# Altium integrated library Linear Technology Operational Amplifiers (LT1000).IntLib: 2280 symbols (part 23 of 79)
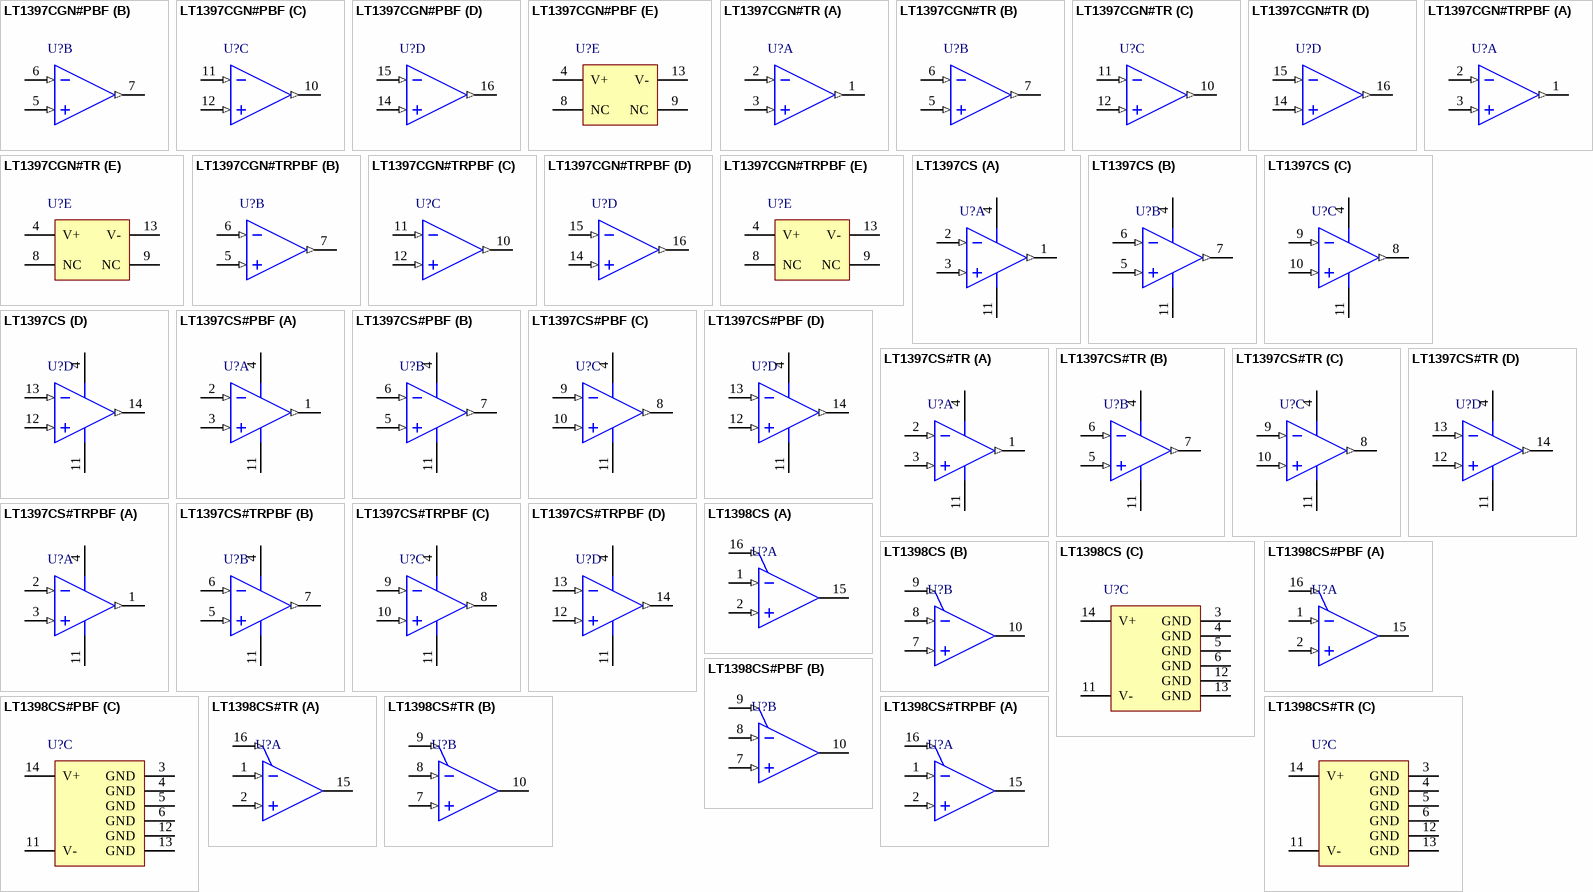
[diagram p127: symbols LT1397CGN#PBF to LT1398CS#TRPBF]

## LT1397CS
designator U?
Quad Channel, Current Feedback Amplifier, 100 MHz 0.1 dB Bandwidth, 400 MHz Typical GBW, 800 V/us Typical SR, 3 to 12.6 V, 14-Pin SOIC (S-14), Commercial; Linear Technology Part Number: LT1397; Manufacturer: Linear Technology; PartNumber: LT1397CS; Channels (#): 4; GBW (MHz) Typical: 400; Is (mA) Typical: 4.6; SR (V/us) Typical: 800; Vos (mV) Typical: 10; Vs Max (V): 12.6; Vs Min (V): 3; DatasheetVersion: Rev. D; PackageVersion: Rev G; PackageReference: LT-S-14; PackageDescription: 14-Lead Plastic Small Outline, Body 8.65 x 3.90 mm, Pitch 1.27 mm; Supplier 1: Digi-Key; Supplier Part Number 1: LT1397CS-ND; Type: CFA; Mounting Technology: Surface Mount; ComponentLink1Description: Manufacturer URL; ComponentLink1URL: http://www.linear.com/; ComponentLink2Description: Datasheet; ComponentLink2URL: http://cds.linear.com/docs/en/datasheet/139567fd.pdf; ComponentLink3Description: Package Specification; ComponentLink3URL: http://cds.linear.com/docs/en/packaging/05081610_G_S14.pdf
footprint LT-S-14_N (SOIC, 14-Leads, Body 8.65x3.90mm, Pitch 1.27mm, IPC Medium Density)
footprint LT-S-14_L (SOIC, 14-Leads, Body 8.65x3.90mm, Pitch 1.27mm, IPC High Density)
footprint LT-S-14_M (SOIC, 14-Leads, Body 8.65x3.90mm, Pitch 1.27mm, IPC Low Density)
pins on every part: 4 V+ (power), 11 V- (power)
part A pins: 1 OUT A (out), 2 -IN A (in), 3 +IN A (in)
part B pins: 5 +IN B (in), 6 -IN B (in), 7 OUT B (out)
part C pins: 8 OUT C (out), 9 -IN C (in), 10 +IN C (in)
part D pins: 12 +IN D (in), 13 -IN D (in), 14 OUT D (out)

## LT1397CS#PBF
designator U?
Quad Channel, Current Feedback Amplifier, 100 MHz 0.1 dB Bandwidth, 400 MHz Typical GBW, 800 V/us Typical SR, 3 to 12.6 V, 14-Pin SOIC (S-14), Commercial, Pb-Free; Linear Technology Part Number: LT1397; Manufacturer: Linear Technology; PartNumber: LT1397CS#PBF; Channels (#): 4; GBW (MHz) Typical: 400; Is (mA) Typical: 4.6; SR (V/us) Typical: 800; Vos (mV) Typical: 10; Vs Max (V): 12.6; Vs Min (V): 3; DatasheetVersion: Rev. D; PackageVersion: Rev G; PackageReference: LT-S-14; PackageDescription: 14-Lead Plastic Small Outline, Body 8.65 x 3.90 mm, Pitch 1.27 mm; Supplier 1: Digi-Key; Supplier Part Number 1: LT1397CS#PBF-ND; Supplier 2: Newark; Supplier Part Number 2: 57M3899; RoHS: Pb-Free; Type: CFA; Mounting Technology: Surface Mount; ComponentLink1Description: Manufacturer URL; ComponentLink1URL: http://www.linear.com/; ComponentLink2Description: Datasheet; ComponentLink2URL: http://cds.linear.com/docs/en/datasheet/139567fd.pdf; ComponentLink3Description: Package Specification; ComponentLink3URL: http://cds.linear.com/docs/en/packaging/05081610_G_S14.pdf
footprint LT-S-14_N (SOIC, 14-Leads, Body 8.65x3.90mm, Pitch 1.27mm, IPC Medium Density)
footprint LT-S-14_L (SOIC, 14-Leads, Body 8.65x3.90mm, Pitch 1.27mm, IPC High Density)
footprint LT-S-14_M (SOIC, 14-Leads, Body 8.65x3.90mm, Pitch 1.27mm, IPC Low Density)
pins on every part: 4 V+ (power), 11 V- (power)
part A pins: 1 OUT A (out), 2 -IN A (in), 3 +IN A (in)
part B pins: 5 +IN B (in), 6 -IN B (in), 7 OUT B (out)
part C pins: 8 OUT C (out), 9 -IN C (in), 10 +IN C (in)
part D pins: 12 +IN D (in), 13 -IN D (in), 14 OUT D (out)

## LT1397CS#TR
designator U?
Quad Channel, Current Feedback Amplifier, 100 MHz 0.1 dB Bandwidth, 400 MHz Typical GBW, 800 V/us Typical SR, 3 to 12.6 V, 14-Pin SOIC (S-14), Commercial, Reel; Linear Technology Part Number: LT1397; Manufacturer: Linear Technology; PartNumber: LT1397CS#TR; Channels (#): 4; GBW (MHz) Typical: 400; Is (mA) Typical: 4.6; SR (V/us) Typical: 800; Vos (mV) Typical: 10; Vs Max (V): 12.6; Vs Min (V): 3; DatasheetVersion: Rev. D; PackageVersion: Rev G; PackageReference: LT-S-14; PackageDescription: 14-Lead Plastic Small Outline, Body 8.65 x 3.90 mm, Pitch 1.27 mm; Supplier 1: Digi-Key; Supplier Part Number 1: LT1397CS#TR-ND; Packing: Reel; Type: CFA; Mounting Technology: Surface Mount; ComponentLink1Description: Manufacturer URL; ComponentLink1URL: http://www.linear.com/; ComponentLink2Description: Datasheet; ComponentLink2URL: http://cds.linear.com/docs/en/datasheet/139567fd.pdf; ComponentLink3Description: Package Specification; ComponentLink3URL: http://cds.linear.com/docs/en/packaging/05081610_G_S14.pdf
footprint LT-S-14_N (SOIC, 14-Leads, Body 8.65x3.90mm, Pitch 1.27mm, IPC Medium Density)
footprint LT-S-14_L (SOIC, 14-Leads, Body 8.65x3.90mm, Pitch 1.27mm, IPC High Density)
footprint LT-S-14_M (SOIC, 14-Leads, Body 8.65x3.90mm, Pitch 1.27mm, IPC Low Density)
pins on every part: 4 V+ (power), 11 V- (power)
part A pins: 1 OUT A (out), 2 -IN A (in), 3 +IN A (in)
part B pins: 5 +IN B (in), 6 -IN B (in), 7 OUT B (out)
part C pins: 8 OUT C (out), 9 -IN C (in), 10 +IN C (in)
part D pins: 12 +IN D (in), 13 -IN D (in), 14 OUT D (out)

## LT1397CS#TRPBF
designator U?
Quad Channel, Current Feedback Amplifier, 100 MHz 0.1 dB Bandwidth, 400 MHz Typical GBW, 800 V/us Typical SR, 3 to 12.6 V, 14-Pin SOIC (S-14), Commercial, Pb-Free, Reel; Linear Technology Part Number: LT1397; Manufacturer: Linear Technology; PartNumber: LT1397CS#TRPBF; Channels (#): 4; GBW (MHz) Typical: 400; Is (mA) Typical: 4.6; SR (V/us) Typical: 800; Vos (mV) Typical: 10; Vs Max (V): 12.6; Vs Min (V): 3; DatasheetVersion: Rev. D; PackageVersion: Rev G; PackageReference: LT-S-14; PackageDescription: 14-Lead Plastic Small Outline, Body 8.65 x 3.90 mm, Pitch 1.27 mm; Supplier 1: Digi-Key; Supplier Part Number 1: LT1397CS#TRPBF-ND; Packing: Reel; RoHS: Pb-Free; Type: CFA; Mounting Technology: Surface Mount; ComponentLink1Description: Manufacturer URL; ComponentLink1URL: http://www.linear.com/; ComponentLink2Description: Datasheet; ComponentLink2URL: http://cds.linear.com/docs/en/datasheet/139567fd.pdf; ComponentLink3Description: Package Specification; ComponentLink3URL: http://cds.linear.com/docs/en/packaging/05081610_G_S14.pdf
footprint LT-S-14_N (SOIC, 14-Leads, Body 8.65x3.90mm, Pitch 1.27mm, IPC Medium Density)
footprint LT-S-14_L (SOIC, 14-Leads, Body 8.65x3.90mm, Pitch 1.27mm, IPC High Density)
footprint LT-S-14_M (SOIC, 14-Leads, Body 8.65x3.90mm, Pitch 1.27mm, IPC Low Density)
pins on every part: 4 V+ (power), 11 V- (power)
part A pins: 1 OUT A (out), 2 -IN A (in), 3 +IN A (in)
part B pins: 5 +IN B (in), 6 -IN B (in), 7 OUT B (out)
part C pins: 8 OUT C (out), 9 -IN C (in), 10 +IN C (in)
part D pins: 12 +IN D (in), 13 -IN D (in), 14 OUT D (out)

## LT1398CS
designator U?
Dual Channel, Operational Amplifier, 0.1 dB Gain Flatness to 150 MHz, 300 MHz Typical GBW, 800 V/us Typical SR, 3 to 12.6 V, 16-Pin SOIC (S-16), Commercial; Linear Technology Part Number: LT1398; Manufacturer: Linear Technology; PartNumber: LT1398CS; Channels (#): 2; GBW (MHz) Typical: 300; Is (mA) Typical: 4.6; SR (V/us) Typical: 800; Vos (mV) Typical: 10; Vs Max (V): 12.6; Vs Min (V): 3; DatasheetVersion: Rev. A; PackageVersion: Rev G; PackageReference: LT-S-16; PackageDescription: 16-Lead Plastic Small Outline, Body 9.9 x 3.9 mm, Pitch 1.27 mm; Supplier 1: Digi-Key; Supplier Part Number 1: LT1398CS-ND; Type: CFA; Mounting Technology: Surface Mount; ComponentLink1Description: Manufacturer URL; ComponentLink1URL: http://www.linear.com/; ComponentLink2Description: Datasheet; ComponentLink2URL: http://cds.linear.com/docs/en/datasheet/13989fa.pdf; ComponentLink3Description: Package Specification; ComponentLink3URL: http://cds.linear.com/docs/en/packaging/S16%2005-08-1610%20Rev%20G.pdf
footprint LT-S-16_N (SOP, 16-Leads, Body 9.9x3.9mm, Pitch 1.27mm, IPC Medium Density)
footprint LT-S-16_L (SOP, 16-Leads, Body 9.9x3.9mm, Pitch 1.27mm, IPC High Density)
footprint LT-S-16_M (SOP, 16-Leads, Body 9.9x3.9mm, Pitch 1.27mm, IPC Low Density)
part A pins: 1 -IN A (in) "Inverting Input of A Channel Amplifier.", 2 +IN A (in) "Noninverting Input of A Channel Amplifier.", 15 OUT A (hiz) "A Channel Output.", 16 ~{EN} A (in) "A Channel Enable Pin. Logic low to enable."
part B pins: 7 +IN B (in) "Noninverting Input of B Channel Amplifier.", 8 -IN B (in) "Inverting Input of B Channel Amplifier.", 9 ~{EN} B (in) "B Channel Enable Pin. Logic low to enable.", 10 OUT B (hiz) "B Channel Output."
part C pins: 3 GND (power) "Ground. Not connected internally.", 4 GND (power) "Ground. Not connected internally.", 5 GND (power) "Ground. Not connected internally.", 6 GND (power) "Ground. Not connected internally.", 11 V- (power) "Negative Supply Voltage, Usually - 5V.", 12 GND (power) "Ground. Not connected internally.", 13 GND (power) "Ground. Not connected internally.", 14 V+ (power) "Positive Supply Voltage, Usually 5V."

## LT1398CS#PBF
designator U?
Dual Channel, Operational Amplifier, 0.1 dB Gain Flatness to 150 MHz, 300 MHz Typical GBW, 800 V/us Typical SR, 3 to 12.6 V, 16-Pin SOIC (S-16), Commercial, Pb-Free; Linear Technology Part Number: LT1398; Manufacturer: Linear Technology; PartNumber: LT1398CS#PBF; Channels (#): 2; GBW (MHz) Typical: 300; Is (mA) Typical: 4.6; SR (V/us) Typical: 800; Vos (mV) Typical: 10; Vs Max (V): 12.6; Vs Min (V): 3; DatasheetVersion: Rev. A; PackageVersion: Rev G; PackageReference: LT-S-16; PackageDescription: 16-Lead Plastic Small Outline, Body 9.9 x 3.9 mm, Pitch 1.27 mm; Supplier 1: Digi-Key; Supplier Part Number 1: LT1398CS#PBF-ND; Supplier 2: Newark; Supplier Part Number 2: 57M3905; RoHS: Pb-Free; Type: CFA; Mounting Technology: Surface Mount; ComponentLink1Description: Manufacturer URL; ComponentLink1URL: http://www.linear.com/; ComponentLink2Description: Datasheet; ComponentLink2URL: http://cds.linear.com/docs/en/datasheet/13989fa.pdf; ComponentLink3Description: Package Specification; ComponentLink3URL: http://cds.linear.com/docs/en/packaging/S16%2005-08-1610%20Rev%20G.pdf
footprint LT-S-16_N (SOP, 16-Leads, Body 9.9x3.9mm, Pitch 1.27mm, IPC Medium Density)
footprint LT-S-16_L (SOP, 16-Leads, Body 9.9x3.9mm, Pitch 1.27mm, IPC High Density)
footprint LT-S-16_M (SOP, 16-Leads, Body 9.9x3.9mm, Pitch 1.27mm, IPC Low Density)
part A pins: 1 -IN A (in) "Inverting Input of A Channel Amplifier.", 2 +IN A (in) "Noninverting Input of A Channel Amplifier.", 15 OUT A (hiz) "A Channel Output.", 16 ~{EN} A (in) "A Channel Enable Pin. Logic low to enable."
part B pins: 7 +IN B (in) "Noninverting Input of B Channel Amplifier.", 8 -IN B (in) "Inverting Input of B Channel Amplifier.", 9 ~{EN} B (in) "B Channel Enable Pin. Logic low to enable.", 10 OUT B (hiz) "B Channel Output."
part C pins: 3 GND (power) "Ground. Not connected internally.", 4 GND (power) "Ground. Not connected internally.", 5 GND (power) "Ground. Not connected internally.", 6 GND (power) "Ground. Not connected internally.", 11 V- (power) "Negative Supply Voltage, Usually - 5V.", 12 GND (power) "Ground. Not connected internally.", 13 GND (power) "Ground. Not connected internally.", 14 V+ (power) "Positive Supply Voltage, Usually 5V."

## LT1398CS#TR
designator U?
Dual Channel, Operational Amplifier, 0.1 dB Gain Flatness to 150 MHz, 300 MHz Typical GBW, 800 V/us Typical SR, 3 to 12.6 V, 16-Pin SOIC (S-16), Commercial, Reel; Linear Technology Part Number: LT1398; Manufacturer: Linear Technology; PartNumber: LT1398CS#TR; Channels (#): 2; GBW (MHz) Typical: 300; Is (mA) Typical: 4.6; SR (V/us) Typical: 800; Vos (mV) Typical: 10; Vs Max (V): 12.6; Vs Min (V): 3; DatasheetVersion: Rev. A; PackageVersion: Rev G; PackageReference: LT-S-16; PackageDescription: 16-Lead Plastic Small Outline, Body 9.9 x 3.9 mm, Pitch 1.27 mm; Supplier 1: Digi-Key; Supplier Part Number 1: LT1398CS#TR-ND; Packing: Reel; Type: CFA; Mounting Technology: Surface Mount; ComponentLink1Description: Manufacturer URL; ComponentLink1URL: http://www.linear.com/; ComponentLink2Description: Datasheet; ComponentLink2URL: http://cds.linear.com/docs/en/datasheet/13989fa.pdf; ComponentLink3Description: Package Specification; ComponentLink3URL: http://cds.linear.com/docs/en/packaging/S16%2005-08-1610%20Rev%20G.pdf
footprint LT-S-16_N (SOP, 16-Leads, Body 9.9x3.9mm, Pitch 1.27mm, IPC Medium Density)
footprint LT-S-16_L (SOP, 16-Leads, Body 9.9x3.9mm, Pitch 1.27mm, IPC High Density)
footprint LT-S-16_M (SOP, 16-Leads, Body 9.9x3.9mm, Pitch 1.27mm, IPC Low Density)
part A pins: 1 -IN A (in) "Inverting Input of A Channel Amplifier.", 2 +IN A (in) "Noninverting Input of A Channel Amplifier.", 15 OUT A (hiz) "A Channel Output.", 16 ~{EN} A (in) "A Channel Enable Pin. Logic low to enable."
part B pins: 7 +IN B (in) "Noninverting Input of B Channel Amplifier.", 8 -IN B (in) "Inverting Input of B Channel Amplifier.", 9 ~{EN} B (in) "B Channel Enable Pin. Logic low to enable.", 10 OUT B (hiz) "B Channel Output."
part C pins: 3 GND (power) "Ground. Not connected internally.", 4 GND (power) "Ground. Not connected internally.", 5 GND (power) "Ground. Not connected internally.", 6 GND (power) "Ground. Not connected internally.", 11 V- (power) "Negative Supply Voltage, Usually - 5V.", 12 GND (power) "Ground. Not connected internally.", 13 GND (power) "Ground. Not connected internally.", 14 V+ (power) "Positive Supply Voltage, Usually 5V."

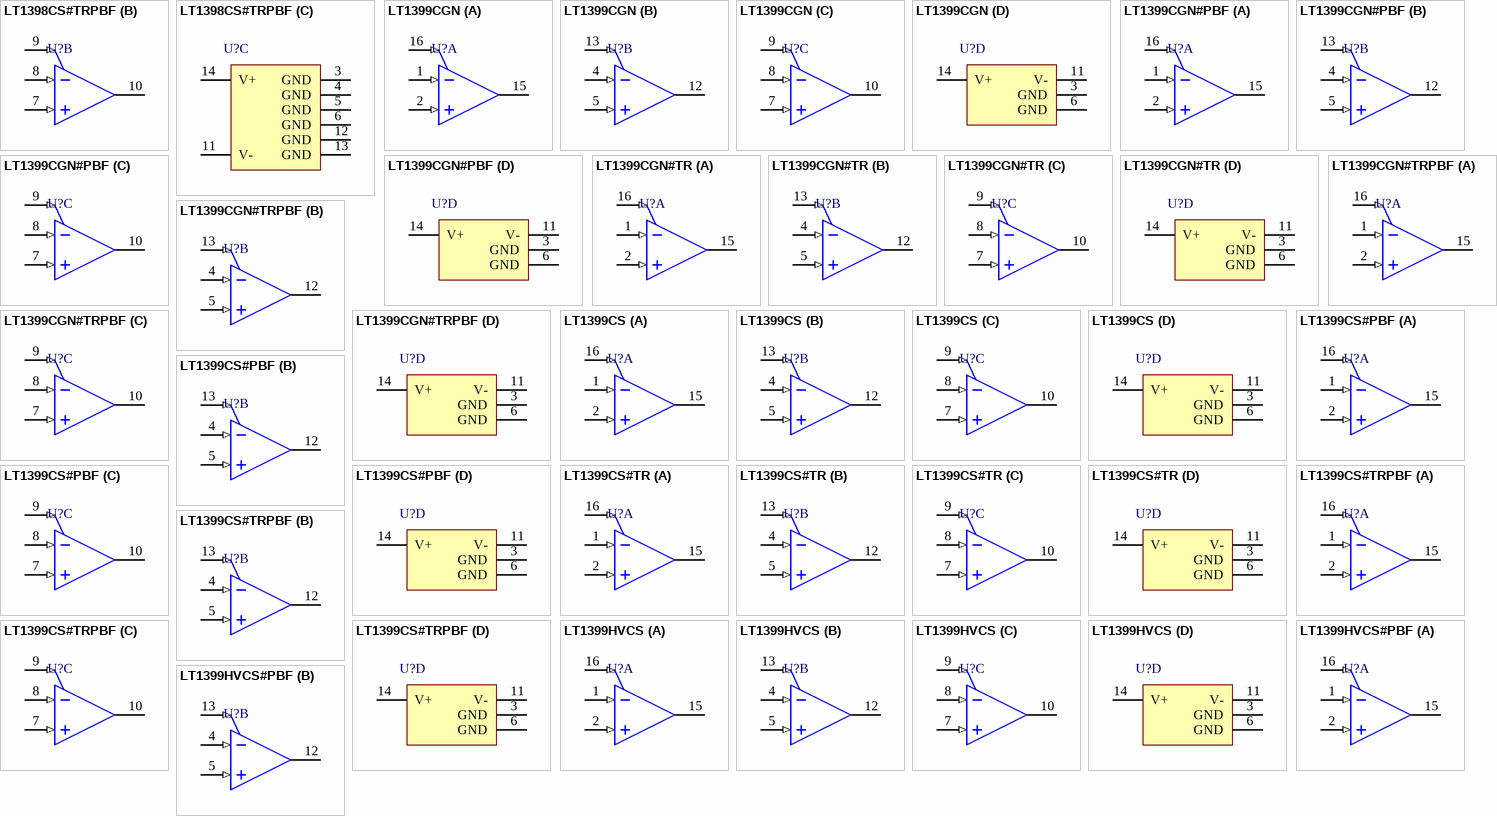
[diagram p36: symbols LT1398CS#TRPBF to LT1399HVCS#PBF]

## LT1398CS#TRPBF
designator U?
Dual Channel, Operational Amplifier, 0.1 dB Gain Flatness to 150 MHz, 300 MHz Typical GBW, 800 V/us Typical SR, 3 to 12.6 V, 16-Pin SOIC (S-16), Commercial, Pb-Free, Reel; Linear Technology Part Number: LT1398; Manufacturer: Linear Technology; PartNumber: LT1398CS#TRPBF; Channels (#): 2; GBW (MHz) Typical: 300; Is (mA) Typical: 4.6; SR (V/us) Typical: 800; Vos (mV) Typical: 10; Vs Max (V): 12.6; Vs Min (V): 3; DatasheetVersion: Rev. A; PackageVersion: Rev G; PackageReference: LT-S-16; PackageDescription: 16-Lead Plastic Small Outline, Body 9.9 x 3.9 mm, Pitch 1.27 mm; Supplier 1: Digi-Key; Supplier Part Number 1: LT1398CS#TRPBF-ND; Packing: Reel; RoHS: Pb-Free; Type: CFA; Mounting Technology: Surface Mount; ComponentLink1Description: Manufacturer URL; ComponentLink1URL: http://www.linear.com/; ComponentLink2Description: Datasheet; ComponentLink2URL: http://cds.linear.com/docs/en/datasheet/13989fa.pdf; ComponentLink3Description: Package Specification; ComponentLink3URL: http://cds.linear.com/docs/en/packaging/S16%2005-08-1610%20Rev%20G.pdf
footprint LT-S-16_N (SOP, 16-Leads, Body 9.9x3.9mm, Pitch 1.27mm, IPC Medium Density)
footprint LT-S-16_L (SOP, 16-Leads, Body 9.9x3.9mm, Pitch 1.27mm, IPC High Density)
footprint LT-S-16_M (SOP, 16-Leads, Body 9.9x3.9mm, Pitch 1.27mm, IPC Low Density)
part A pins: 1 -IN A (in) "Inverting Input of A Channel Amplifier.", 2 +IN A (in) "Noninverting Input of A Channel Amplifier.", 15 OUT A (hiz) "A Channel Output.", 16 ~{EN} A (in) "A Channel Enable Pin. Logic low to enable."
part B pins: 7 +IN B (in) "Noninverting Input of B Channel Amplifier.", 8 -IN B (in) "Inverting Input of B Channel Amplifier.", 9 ~{EN} B (in) "B Channel Enable Pin. Logic low to enable.", 10 OUT B (hiz) "B Channel Output."
part C pins: 3 GND (power) "Ground. Not connected internally.", 4 GND (power) "Ground. Not connected internally.", 5 GND (power) "Ground. Not connected internally.", 6 GND (power) "Ground. Not connected internally.", 11 V- (power) "Negative Supply Voltage, Usually - 5V.", 12 GND (power) "Ground. Not connected internally.", 13 GND (power) "Ground. Not connected internally.", 14 V+ (power) "Positive Supply Voltage, Usually 5V."

## LT1399CGN
designator U?
3 Channel, Operational Amplifier, 0.1 dB Gain Flatness to 150 MHz, 300 MHz Typical GBW, 800 V/us Typical SR, 3 to 12.6 V, 16-Pin SOP (GN-16), Commercial; Linear Technology Part Number: LT1399; Manufacturer: Linear Technology; PartNumber: LT1399CGN; Channels (#): 3; GBW (MHz) Typical: 300; Is (mA) Typical: 4.6; SR (V/us) Typical: 800; Vos (mV) Typical: 1.5; Vs Max (V): 12.6; DatasheetVersion: Rev. A; PackageVersion: Rev B; PackageReference: LT-GN-16; PackageDescription: 16-Lead Plastic SSOP, Body 4.9 x 3.9 mm, Pitch 0.635 mm; Supplier 1: Digi-Key; Supplier Part Number 1: LT1399CGN-ND; Type: CFA; Vs Min (V): 3; Mounting Technology: Surface Mount; ComponentLink1Description: Manufacturer URL; ComponentLink1URL: http://www.linear.com/; ComponentLink2Description: Datasheet; ComponentLink2URL: http://cds.linear.com/docs/en/datasheet/13989fa.pdf; ComponentLink3Description: Package Specification; ComponentLink3URL: http://cds.linear.com/docs/en/packaging/05081641_B_GN16.pdf
footprint LT-GN-16_N (SOP, 16-Leads, Body 4.9x3.9mm, Pitch 0.635mm, IPC Medium Density)
footprint LT-GN-16_L (SOP, 16-Leads, Body 4.9x3.9mm, Pitch 0.635mm, IPC High Density)
footprint LT-GN-16_M (SOP, 16-Leads, Body 4.9x3.9mm, Pitch 0.635mm, IPC Low Density)
part A pins: 1 -IN R (in) "Inverting Input of R Channel Amplifier.", 2 +IN R (in) "Noninverting Input of R Channel Amplifier.", 15 OUT R (hiz) "R Channel Output.", 16 ~{EN} R (in) "R Channel Enable Pin. Logic low to enable."
part B pins: 4 -IN G (in) "Inverting Input of G Channel Amplifier.", 5 +IN G (in) "Noninverting Input of G Channel Amplifier.", 12 OUT G (hiz) "G Channel Output.", 13 ~{EN} G (in) "G Channel Enable Pin. Logic low to enable."
part C pins: 7 +IN B (in) "Noninverting Input of B Channel Amplifier.", 8 -IN B (in) "Inverting Input of B Channel Amplifier.", 9 ~{EN} B (in) "B Channel Enable Pin. Logic low to enable.", 10 OUT B (hiz) "B Channel Output."
part D pins: 3 GND (power) "Ground. Not connected internally.", 6 GND (power) "Ground. Not connected internally.", 11 V- (power) "Negative Supply Voltage, Usually -5V.", 14 V+ (power) "Positive Supply Voltage, Usually 5V."

## LT1399CGN#PBF
designator U?
3 Channel, Operational Amplifier, 0.1 dB Gain Flatness to 150 MHz, 300 MHz Typical GBW, 800 V/us Typical SR, 3 to 12.6 V, 16-Pin SOP (GN-16), Commercial, Pb-Free; Linear Technology Part Number: LT1399; Manufacturer: Linear Technology; PartNumber: LT1399CGN#PBF; Channels (#): 3; GBW (MHz) Typical: 300; Is (mA) Typical: 4.6; SR (V/us) Typical: 800; Vos (mV) Typical: 1.5; Vs Max (V): 12.6; DatasheetVersion: Rev. A; PackageVersion: Rev B; PackageReference: LT-GN-16; PackageDescription: 16-Lead Plastic SSOP, Body 4.9 x 3.9 mm, Pitch 0.635 mm; Supplier 1: Digi-Key; Supplier Part Number 1: LT1399CGN#PBF-ND; RoHS: Pb-Free; Type: CFA; Vs Min (V): 3; Mounting Technology: Surface Mount; ComponentLink1Description: Manufacturer URL; ComponentLink1URL: http://www.linear.com/; ComponentLink2Description: Datasheet; ComponentLink2URL: http://cds.linear.com/docs/en/datasheet/13989fa.pdf; ComponentLink3Description: Package Specification; ComponentLink3URL: http://cds.linear.com/docs/en/packaging/05081641_B_GN16.pdf
footprint LT-GN-16_N (SOP, 16-Leads, Body 4.9x3.9mm, Pitch 0.635mm, IPC Medium Density)
footprint LT-GN-16_L (SOP, 16-Leads, Body 4.9x3.9mm, Pitch 0.635mm, IPC High Density)
footprint LT-GN-16_M (SOP, 16-Leads, Body 4.9x3.9mm, Pitch 0.635mm, IPC Low Density)
part A pins: 1 -IN R (in) "Inverting Input of R Channel Amplifier.", 2 +IN R (in) "Noninverting Input of R Channel Amplifier.", 15 OUT R (hiz) "R Channel Output.", 16 ~{EN} R (in) "R Channel Enable Pin. Logic low to enable."
part B pins: 4 -IN G (in) "Inverting Input of G Channel Amplifier.", 5 +IN G (in) "Noninverting Input of G Channel Amplifier.", 12 OUT G (hiz) "G Channel Output.", 13 ~{EN} G (in) "G Channel Enable Pin. Logic low to enable."
part C pins: 7 +IN B (in) "Noninverting Input of B Channel Amplifier.", 8 -IN B (in) "Inverting Input of B Channel Amplifier.", 9 ~{EN} B (in) "B Channel Enable Pin. Logic low to enable.", 10 OUT B (hiz) "B Channel Output."
part D pins: 3 GND (power) "Ground. Not connected internally.", 6 GND (power) "Ground. Not connected internally.", 11 V- (power) "Negative Supply Voltage, Usually -5V.", 14 V+ (power) "Positive Supply Voltage, Usually 5V."

## LT1399CGN#TR
designator U?
3 Channel, Operational Amplifier, 0.1 dB Gain Flatness to 150 MHz, 300 MHz Typical GBW, 800 V/us Typical SR, 3 to 12.6 V, 16-Pin SOP (GN-16), Commercial, Reel; Linear Technology Part Number: LT1399; Manufacturer: Linear Technology; PartNumber: LT1399CGN#TR; Channels (#): 3; GBW (MHz) Typical: 300; Is (mA) Typical: 4.6; SR (V/us) Typical: 800; Vos (mV) Typical: 1.5; Vs Max (V): 12.6; DatasheetVersion: Rev. A; PackageVersion: Rev B; PackageReference: LT-GN-16; PackageDescription: 16-Lead Plastic SSOP, Body 4.9 x 3.9 mm, Pitch 0.635 mm; Supplier 1: Digi-Key; Supplier Part Number 1: LT1399CGN#TR-ND; Packing: Reel; Type: CFA; Vs Min (V): 3; Mounting Technology: Surface Mount; ComponentLink1Description: Manufacturer URL; ComponentLink1URL: http://www.linear.com/; ComponentLink2Description: Datasheet; ComponentLink2URL: http://cds.linear.com/docs/en/datasheet/13989fa.pdf; ComponentLink3Description: Package Specification; ComponentLink3URL: http://cds.linear.com/docs/en/packaging/05081641_B_GN16.pdf
footprint LT-GN-16_N (SOP, 16-Leads, Body 4.9x3.9mm, Pitch 0.635mm, IPC Medium Density)
footprint LT-GN-16_L (SOP, 16-Leads, Body 4.9x3.9mm, Pitch 0.635mm, IPC High Density)
footprint LT-GN-16_M (SOP, 16-Leads, Body 4.9x3.9mm, Pitch 0.635mm, IPC Low Density)
part A pins: 1 -IN R (in) "Inverting Input of R Channel Amplifier.", 2 +IN R (in) "Noninverting Input of R Channel Amplifier.", 15 OUT R (hiz) "R Channel Output.", 16 ~{EN} R (in) "R Channel Enable Pin. Logic low to enable."
part B pins: 4 -IN G (in) "Inverting Input of G Channel Amplifier.", 5 +IN G (in) "Noninverting Input of G Channel Amplifier.", 12 OUT G (hiz) "G Channel Output.", 13 ~{EN} G (in) "G Channel Enable Pin. Logic low to enable."
part C pins: 7 +IN B (in) "Noninverting Input of B Channel Amplifier.", 8 -IN B (in) "Inverting Input of B Channel Amplifier.", 9 ~{EN} B (in) "B Channel Enable Pin. Logic low to enable.", 10 OUT B (hiz) "B Channel Output."
part D pins: 3 GND (power) "Ground. Not connected internally.", 6 GND (power) "Ground. Not connected internally.", 11 V- (power) "Negative Supply Voltage, Usually -5V.", 14 V+ (power) "Positive Supply Voltage, Usually 5V."

## LT1399CGN#TRPBF
designator U?
3 Channel, Operational Amplifier, 0.1 dB Gain Flatness to 150 MHz, 300 MHz Typical GBW, 800 V/us Typical SR, 3 to 12.6 V, 16-Pin SOP (GN-16), Commercial, Pb-Free, Reel; Linear Technology Part Number: LT1399; Manufacturer: Linear Technology; PartNumber: LT1399CGN#TRPBF; Channels (#): 3; GBW (MHz) Typical: 300; Is (mA) Typical: 4.6; SR (V/us) Typical: 800; Vos (mV) Typical: 1.5; Vs Max (V): 12.6; DatasheetVersion: Rev. A; PackageVersion: Rev B; PackageReference: LT-GN-16; PackageDescription: 16-Lead Plastic SSOP, Body 4.9 x 3.9 mm, Pitch 0.635 mm; Supplier 1: Digi-Key; Supplier Part Number 1: LT1399CGN#TRPBF-ND; Packing: Reel; RoHS: Pb-Free; Type: CFA; Vs Min (V): 3; Mounting Technology: Surface Mount; ComponentLink1Description: Manufacturer URL; ComponentLink1URL: http://www.linear.com/; ComponentLink2Description: Datasheet; ComponentLink2URL: http://cds.linear.com/docs/en/datasheet/13989fa.pdf; ComponentLink3Description: Package Specification; ComponentLink3URL: http://cds.linear.com/docs/en/packaging/05081641_B_GN16.pdf
footprint LT-GN-16_N (SOP, 16-Leads, Body 4.9x3.9mm, Pitch 0.635mm, IPC Medium Density)
footprint LT-GN-16_L (SOP, 16-Leads, Body 4.9x3.9mm, Pitch 0.635mm, IPC High Density)
footprint LT-GN-16_M (SOP, 16-Leads, Body 4.9x3.9mm, Pitch 0.635mm, IPC Low Density)
part A pins: 1 -IN R (in) "Inverting Input of R Channel Amplifier.", 2 +IN R (in) "Noninverting Input of R Channel Amplifier.", 15 OUT R (hiz) "R Channel Output.", 16 ~{EN} R (in) "R Channel Enable Pin. Logic low to enable."
part B pins: 4 -IN G (in) "Inverting Input of G Channel Amplifier.", 5 +IN G (in) "Noninverting Input of G Channel Amplifier.", 12 OUT G (hiz) "G Channel Output.", 13 ~{EN} G (in) "G Channel Enable Pin. Logic low to enable."
part C pins: 7 +IN B (in) "Noninverting Input of B Channel Amplifier.", 8 -IN B (in) "Inverting Input of B Channel Amplifier.", 9 ~{EN} B (in) "B Channel Enable Pin. Logic low to enable.", 10 OUT B (hiz) "B Channel Output."
part D pins: 3 GND (power) "Ground. Not connected internally.", 6 GND (power) "Ground. Not connected internally.", 11 V- (power) "Negative Supply Voltage, Usually -5V.", 14 V+ (power) "Positive Supply Voltage, Usually 5V."

## LT1399CS
designator U?
3 Channel, Operational Amplifier, 0.1 dB Gain Flatness to 150 MHz, 300 MHz Typical GBW, 800 V/us Typical SR, 3 to 12.6 V, 16-Pin SOIC (S-16), Commercial; Linear Technology Part Number: LT1399; Manufacturer: Linear Technology; PartNumber: LT1399CS; Channels (#): 3; GBW (MHz) Typical: 300; Is (mA) Typical: 4.6; SR (V/us) Typical: 800; Vos (mV) Typical: 1.5; Vs Max (V): 12.6; DatasheetVersion: Rev. A; PackageVersion: Rev G; PackageReference: LT-S-16; PackageDescription: 16-Lead Plastic Small Outline, Body 9.9 x 3.9 mm, Pitch 1.27 mm; Supplier 1: Digi-Key; Supplier Part Number 1: LT1399CS-ND; Type: CFA; Vs Min (V): 3; Mounting Technology: Surface Mount; ComponentLink1Description: Manufacturer URL; ComponentLink1URL: http://www.linear.com/; ComponentLink2Description: Datasheet; ComponentLink2URL: http://cds.linear.com/docs/en/datasheet/13989fa.pdf; ComponentLink3Description: Package Specification; ComponentLink3URL: http://cds.linear.com/docs/en/packaging/S16%2005-08-1610%20Rev%20G.pdf
footprint LT-S-16_N (SOP, 16-Leads, Body 9.9x3.9mm, Pitch 1.27mm, IPC Medium Density)
footprint LT-S-16_L (SOP, 16-Leads, Body 9.9x3.9mm, Pitch 1.27mm, IPC High Density)
footprint LT-S-16_M (SOP, 16-Leads, Body 9.9x3.9mm, Pitch 1.27mm, IPC Low Density)
part A pins: 1 -IN R (in) "Inverting Input of R Channel Amplifier.", 2 +IN R (in) "Noninverting Input of R Channel Amplifier.", 15 OUT R (hiz) "R Channel Output.", 16 ~{EN} R (in) "R Channel Enable Pin. Logic low to enable."
part B pins: 4 -IN G (in) "Inverting Input of G Channel Amplifier.", 5 +IN G (in) "Noninverting Input of G Channel Amplifier.", 12 OUT G (hiz) "G Channel Output.", 13 ~{EN} G (in) "G Channel Enable Pin. Logic low to enable."
part C pins: 7 +IN B (in) "Noninverting Input of B Channel Amplifier.", 8 -IN B (in) "Inverting Input of B Channel Amplifier.", 9 ~{EN} B (in) "B Channel Enable Pin. Logic low to enable.", 10 OUT B (hiz) "B Channel Output."
part D pins: 3 GND (power) "Ground. Not connected internally.", 6 GND (power) "Ground. Not connected internally.", 11 V- (power) "Negative Supply Voltage, Usually -5V.", 14 V+ (power) "Positive Supply Voltage, Usually 5V."

## LT1399CS#PBF
designator U?
3 Channel, Operational Amplifier, 0.1 dB Gain Flatness to 150 MHz, 300 MHz Typical GBW, 800 V/us Typical SR, 3 to 12.6 V, 16-Pin SOIC (S-16), Commercial, Pb-Free; Linear Technology Part Number: LT1399; Manufacturer: Linear Technology; PartNumber: LT1399CS#PBF; Channels (#): 3; GBW (MHz) Typical: 300; Is (mA) Typical: 4.6; SR (V/us) Typical: 800; Vos (mV) Typical: 1.5; Vs Max (V): 12.6; DatasheetVersion: Rev. A; PackageVersion: Rev G; PackageReference: LT-S-16; PackageDescription: 16-Lead Plastic Small Outline, Body 9.9 x 3.9 mm, Pitch 1.27 mm; Supplier 1: Digi-Key; Supplier Part Number 1: LT1399CS#PBF-ND; Supplier 2: Farnell; Supplier Part Number 2: 1330651; Supplier 3: Newark; Supplier Part Number 3: 57M3913; RoHS: Pb-Free; Type: CFA; Vs Min (V): 3; Mounting Technology: Surface Mount; ComponentLink1Description: Manufacturer URL; ComponentLink1URL: http://www.linear.com/; ComponentLink2Description: Datasheet; ComponentLink2URL: http://cds.linear.com/docs/en/datasheet/13989fa.pdf; ComponentLink3Description: Package Specification; ComponentLink3URL: http://cds.linear.com/docs/en/packaging/S16%2005-08-1610%20Rev%20G.pdf
footprint LT-S-16_N (SOP, 16-Leads, Body 9.9x3.9mm, Pitch 1.27mm, IPC Medium Density)
footprint LT-S-16_L (SOP, 16-Leads, Body 9.9x3.9mm, Pitch 1.27mm, IPC High Density)
footprint LT-S-16_M (SOP, 16-Leads, Body 9.9x3.9mm, Pitch 1.27mm, IPC Low Density)
part A pins: 1 -IN R (in) "Inverting Input of R Channel Amplifier.", 2 +IN R (in) "Noninverting Input of R Channel Amplifier.", 15 OUT R (hiz) "R Channel Output.", 16 ~{EN} R (in) "R Channel Enable Pin. Logic low to enable."
part B pins: 4 -IN G (in) "Inverting Input of G Channel Amplifier.", 5 +IN G (in) "Noninverting Input of G Channel Amplifier.", 12 OUT G (hiz) "G Channel Output.", 13 ~{EN} G (in) "G Channel Enable Pin. Logic low to enable."
part C pins: 7 +IN B (in) "Noninverting Input of B Channel Amplifier.", 8 -IN B (in) "Inverting Input of B Channel Amplifier.", 9 ~{EN} B (in) "B Channel Enable Pin. Logic low to enable.", 10 OUT B (hiz) "B Channel Output."
part D pins: 3 GND (power) "Ground. Not connected internally.", 6 GND (power) "Ground. Not connected internally.", 11 V- (power) "Negative Supply Voltage, Usually -5V.", 14 V+ (power) "Positive Supply Voltage, Usually 5V."

## LT1399CS#TR
designator U?
3 Channel, Operational Amplifier, 0.1 dB Gain Flatness to 150 MHz, 300 MHz Typical GBW, 800 V/us Typical SR, 3 to 12.6 V, 16-Pin SOIC (S-16), Commercial, Reel; Linear Technology Part Number: LT1399; Manufacturer: Linear Technology; PartNumber: LT1399CS#TR; Channels (#): 3; GBW (MHz) Typical: 300; Is (mA) Typical: 4.6; SR (V/us) Typical: 800; Vos (mV) Typical: 1.5; Vs Max (V): 12.6; DatasheetVersion: Rev. A; PackageVersion: Rev G; PackageReference: LT-S-16; PackageDescription: 16-Lead Plastic Small Outline, Body 9.9 x 3.9 mm, Pitch 1.27 mm; Supplier 1: Digi-Key; Supplier Part Number 1: LT1399CS#TR-ND; Packing: Reel; Type: CFA; Vs Min (V): 3; Mounting Technology: Surface Mount; ComponentLink1Description: Manufacturer URL; ComponentLink1URL: http://www.linear.com/; ComponentLink2Description: Datasheet; ComponentLink2URL: http://cds.linear.com/docs/en/datasheet/13989fa.pdf; ComponentLink3Description: Package Specification; ComponentLink3URL: http://cds.linear.com/docs/en/packaging/S16%2005-08-1610%20Rev%20G.pdf
footprint LT-S-16_N (SOP, 16-Leads, Body 9.9x3.9mm, Pitch 1.27mm, IPC Medium Density)
footprint LT-S-16_L (SOP, 16-Leads, Body 9.9x3.9mm, Pitch 1.27mm, IPC High Density)
footprint LT-S-16_M (SOP, 16-Leads, Body 9.9x3.9mm, Pitch 1.27mm, IPC Low Density)
part A pins: 1 -IN R (in) "Inverting Input of R Channel Amplifier.", 2 +IN R (in) "Noninverting Input of R Channel Amplifier.", 15 OUT R (hiz) "R Channel Output.", 16 ~{EN} R (in) "R Channel Enable Pin. Logic low to enable."
part B pins: 4 -IN G (in) "Inverting Input of G Channel Amplifier.", 5 +IN G (in) "Noninverting Input of G Channel Amplifier.", 12 OUT G (hiz) "G Channel Output.", 13 ~{EN} G (in) "G Channel Enable Pin. Logic low to enable."
part C pins: 7 +IN B (in) "Noninverting Input of B Channel Amplifier.", 8 -IN B (in) "Inverting Input of B Channel Amplifier.", 9 ~{EN} B (in) "B Channel Enable Pin. Logic low to enable.", 10 OUT B (hiz) "B Channel Output."
part D pins: 3 GND (power) "Ground. Not connected internally.", 6 GND (power) "Ground. Not connected internally.", 11 V- (power) "Negative Supply Voltage, Usually -5V.", 14 V+ (power) "Positive Supply Voltage, Usually 5V."

## LT1399CS#TRPBF
designator U?
3 Channel, Operational Amplifier, 0.1 dB Gain Flatness to 150 MHz, 300 MHz Typical GBW, 800 V/us Typical SR, 3 to 12.6 V, 16-Pin SOIC (S-16), Commercial, Pb-Free, Reel; Linear Technology Part Number: LT1399; Manufacturer: Linear Technology; PartNumber: LT1399CS#TRPBF; Channels (#): 3; GBW (MHz) Typical: 300; Is (mA) Typical: 4.6; SR (V/us) Typical: 800; Vos (mV) Typical: 1.5; Vs Max (V): 12.6; DatasheetVersion: Rev. A; PackageVersion: Rev G; PackageReference: LT-S-16; PackageDescription: 16-Lead Plastic Small Outline, Body 9.9 x 3.9 mm, Pitch 1.27 mm; Supplier 1: Digi-Key; Supplier Part Number 1: LT1399CS#TRPBF-ND; Packing: Reel; RoHS: Pb-Free; Type: CFA; Vs Min (V): 3; Mounting Technology: Surface Mount; ComponentLink1Description: Manufacturer URL; ComponentLink1URL: http://www.linear.com/; ComponentLink2Description: Datasheet; ComponentLink2URL: http://cds.linear.com/docs/en/datasheet/13989fa.pdf; ComponentLink3Description: Package Specification; ComponentLink3URL: http://cds.linear.com/docs/en/packaging/S16%2005-08-1610%20Rev%20G.pdf
footprint LT-S-16_N (SOP, 16-Leads, Body 9.9x3.9mm, Pitch 1.27mm, IPC Medium Density)
footprint LT-S-16_L (SOP, 16-Leads, Body 9.9x3.9mm, Pitch 1.27mm, IPC High Density)
footprint LT-S-16_M (SOP, 16-Leads, Body 9.9x3.9mm, Pitch 1.27mm, IPC Low Density)
part A pins: 1 -IN R (in) "Inverting Input of R Channel Amplifier.", 2 +IN R (in) "Noninverting Input of R Channel Amplifier.", 15 OUT R (hiz) "R Channel Output.", 16 ~{EN} R (in) "R Channel Enable Pin. Logic low to enable."
part B pins: 4 -IN G (in) "Inverting Input of G Channel Amplifier.", 5 +IN G (in) "Noninverting Input of G Channel Amplifier.", 12 OUT G (hiz) "G Channel Output.", 13 ~{EN} G (in) "G Channel Enable Pin. Logic low to enable."
part C pins: 7 +IN B (in) "Noninverting Input of B Channel Amplifier.", 8 -IN B (in) "Inverting Input of B Channel Amplifier.", 9 ~{EN} B (in) "B Channel Enable Pin. Logic low to enable.", 10 OUT B (hiz) "B Channel Output."
part D pins: 3 GND (power) "Ground. Not connected internally.", 6 GND (power) "Ground. Not connected internally.", 11 V- (power) "Negative Supply Voltage, Usually -5V.", 14 V+ (power) "Positive Supply Voltage, Usually 5V."

## LT1399HVCS
designator U?
3 Channel, Operational Amplifier, 0.1 dB Gain Flatness to 150 MHz, 300 MHz Typical GBW, 800 V/us Typical SR, 3 to 15.5 V, 16-Pin SOIC (S-16), Commercial; Linear Technology Part Number: LT1399HV; Manufacturer: Linear Technology; PartNumber: LT1399HVCS; Channels (#): 3; GBW (MHz) Typical: 300; Is (mA) Typical: 4.6; SR (V/us) Typical: 800; Vos (mV) Typical: 1.5; Vs Max (V): 15.5; DatasheetVersion: Rev. A; PackageVersion: Rev G; PackageReference: LT-S-16; PackageDescription: 16-Lead Plastic Small Outline, Body 9.9 x 3.9 mm, Pitch 1.27 mm; Supplier 1: Digi-Key; Supplier Part Number 1: LT1399HVCS-ND; Type: CFA; Vs Min (V): 3; Mounting Technology: Surface Mount; ComponentLink1Description: Manufacturer URL; ComponentLink1URL: http://www.linear.com/; ComponentLink2Description: Datasheet; ComponentLink2URL: http://cds.linear.com/docs/en/datasheet/13989fa.pdf; ComponentLink3Description: Package Specification; ComponentLink3URL: http://cds.linear.com/docs/en/packaging/S16%2005-08-1610%20Rev%20G.pdf
footprint LT-S-16_N (SOP, 16-Leads, Body 9.9x3.9mm, Pitch 1.27mm, IPC Medium Density)
footprint LT-S-16_L (SOP, 16-Leads, Body 9.9x3.9mm, Pitch 1.27mm, IPC High Density)
footprint LT-S-16_M (SOP, 16-Leads, Body 9.9x3.9mm, Pitch 1.27mm, IPC Low Density)
part A pins: 1 -IN R (in) "Inverting Input of R Channel Amplifier.", 2 +IN R (in) "Noninverting Input of R Channel Amplifier.", 15 OUT R (hiz) "R Channel Output.", 16 ~{EN} R (in) "R Channel Enable Pin. Logic low to enable."
part B pins: 4 -IN G (in) "Inverting Input of G Channel Amplifier.", 5 +IN G (in) "Noninverting Input of G Channel Amplifier.", 12 OUT G (hiz) "G Channel Output.", 13 ~{EN} G (in) "G Channel Enable Pin. Logic low to enable."
part C pins: 7 +IN B (in) "Noninverting Input of B Channel Amplifier.", 8 -IN B (in) "Inverting Input of B Channel Amplifier.", 9 ~{EN} B (in) "B Channel Enable Pin. Logic low to enable.", 10 OUT B (hiz) "B Channel Output."
part D pins: 3 GND (power) "Ground. Not connected internally.", 6 GND (power) "Ground. Not connected internally.", 11 V- (power) "Negative Supply Voltage, Usually -5V.", 14 V+ (power) "Positive Supply Voltage, Usually 5V."

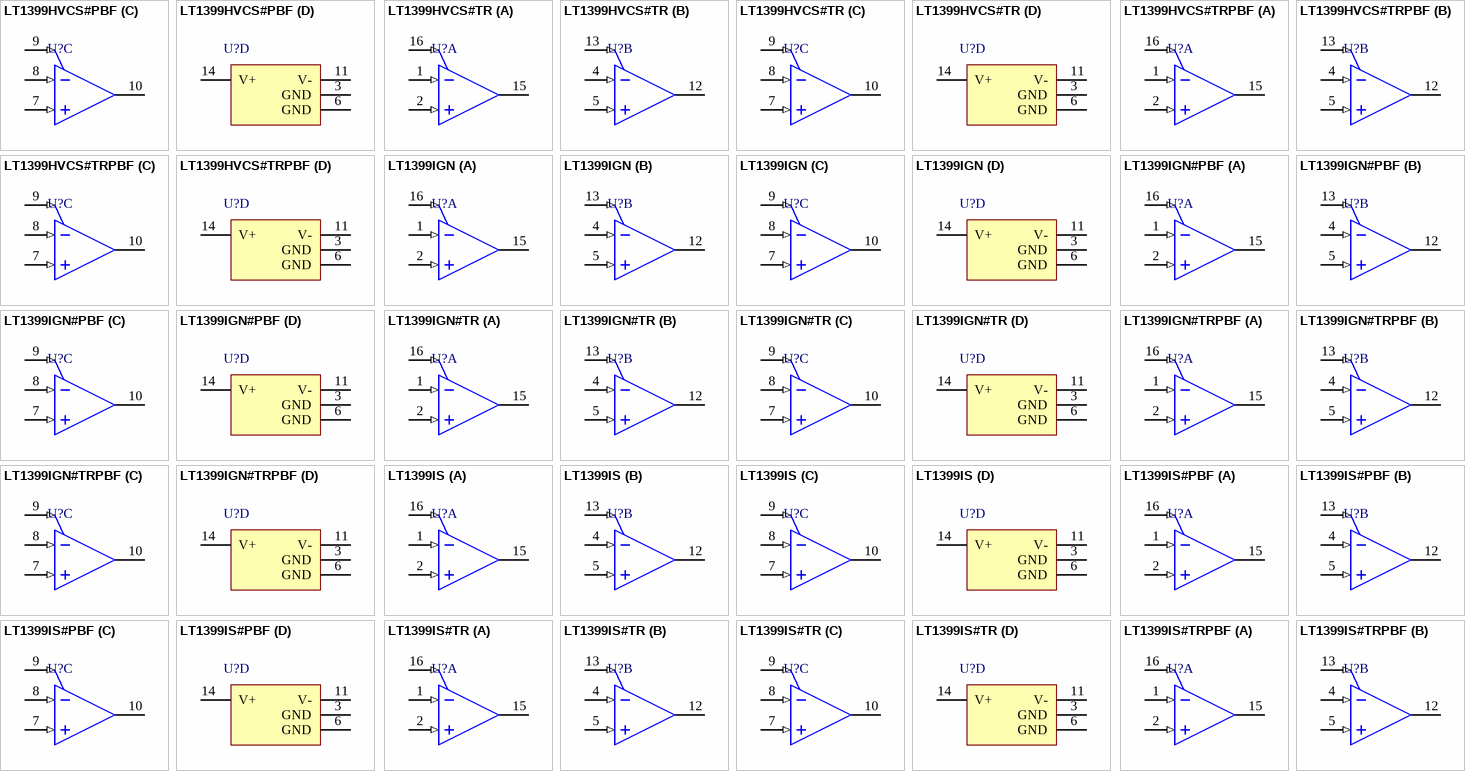
[diagram p37: symbols LT1399HVCS#PBF to LT1399IS#TRPBF]

## LT1399HVCS#PBF
designator U?
3 Channel, Operational Amplifier, 0.1 dB Gain Flatness to 150 MHz, 300 MHz Typical GBW, 800 V/us Typical SR, 3 to 15.5 V, 16-Pin SOIC (S-16), Commercial, Pb-Free; Linear Technology Part Number: LT1399HV; Manufacturer: Linear Technology; PartNumber: LT1399HVCS#PBF; Channels (#): 3; GBW (MHz) Typical: 300; Is (mA) Typical: 4.6; SR (V/us) Typical: 800; Vos (mV) Typical: 1.5; Vs Max (V): 15.5; DatasheetVersion: Rev. A; PackageVersion: Rev G; PackageReference: LT-S-16; PackageDescription: 16-Lead Plastic Small Outline, Body 9.9 x 3.9 mm, Pitch 1.27 mm; Supplier 1: Digi-Key; Supplier Part Number 1: LT1399HVCS#PBF-ND; Supplier 2: Newark; Supplier Part Number 2: 57M3917; RoHS: Pb-Free; Type: CFA; Vs Min (V): 3; Mounting Technology: Surface Mount; ComponentLink1Description: Manufacturer URL; ComponentLink1URL: http://www.linear.com/; ComponentLink2Description: Datasheet; ComponentLink2URL: http://cds.linear.com/docs/en/datasheet/13989fa.pdf; ComponentLink3Description: Package Specification; ComponentLink3URL: http://cds.linear.com/docs/en/packaging/S16%2005-08-1610%20Rev%20G.pdf
footprint LT-S-16_N (SOP, 16-Leads, Body 9.9x3.9mm, Pitch 1.27mm, IPC Medium Density)
footprint LT-S-16_L (SOP, 16-Leads, Body 9.9x3.9mm, Pitch 1.27mm, IPC High Density)
footprint LT-S-16_M (SOP, 16-Leads, Body 9.9x3.9mm, Pitch 1.27mm, IPC Low Density)
part A pins: 1 -IN R (in) "Inverting Input of R Channel Amplifier.", 2 +IN R (in) "Noninverting Input of R Channel Amplifier.", 15 OUT R (hiz) "R Channel Output.", 16 ~{EN} R (in) "R Channel Enable Pin. Logic low to enable."
part B pins: 4 -IN G (in) "Inverting Input of G Channel Amplifier.", 5 +IN G (in) "Noninverting Input of G Channel Amplifier.", 12 OUT G (hiz) "G Channel Output.", 13 ~{EN} G (in) "G Channel Enable Pin. Logic low to enable."
part C pins: 7 +IN B (in) "Noninverting Input of B Channel Amplifier.", 8 -IN B (in) "Inverting Input of B Channel Amplifier.", 9 ~{EN} B (in) "B Channel Enable Pin. Logic low to enable.", 10 OUT B (hiz) "B Channel Output."
part D pins: 3 GND (power) "Ground. Not connected internally.", 6 GND (power) "Ground. Not connected internally.", 11 V- (power) "Negative Supply Voltage, Usually -5V.", 14 V+ (power) "Positive Supply Voltage, Usually 5V."

## LT1399HVCS#TR
designator U?
3 Channel, Operational Amplifier, 0.1 dB Gain Flatness to 150 MHz, 300 MHz Typical GBW, 800 V/us Typical SR, 3 to 15.5 V, 16-Pin SOIC (S-16), Commercial, Reel; Linear Technology Part Number: LT1399HV; Manufacturer: Linear Technology; PartNumber: LT1399HVCS#TR; Channels (#): 3; GBW (MHz) Typical: 300; Is (mA) Typical: 4.6; SR (V/us) Typical: 800; Vos (mV) Typical: 1.5; Vs Max (V): 15.5; DatasheetVersion: Rev. A; PackageVersion: Rev G; PackageReference: LT-S-16; PackageDescription: 16-Lead Plastic Small Outline, Body 9.9 x 3.9 mm, Pitch 1.27 mm; Supplier 1: Digi-Key; Supplier Part Number 1: LT1399HVCS#TR-ND; Packing: Reel; Type: CFA; Vs Min (V): 3; Mounting Technology: Surface Mount; ComponentLink1Description: Manufacturer URL; ComponentLink1URL: http://www.linear.com/; ComponentLink2Description: Datasheet; ComponentLink2URL: http://cds.linear.com/docs/en/datasheet/13989fa.pdf; ComponentLink3Description: Package Specification; ComponentLink3URL: http://cds.linear.com/docs/en/packaging/S16%2005-08-1610%20Rev%20G.pdf
footprint LT-S-16_N (SOP, 16-Leads, Body 9.9x3.9mm, Pitch 1.27mm, IPC Medium Density)
footprint LT-S-16_L (SOP, 16-Leads, Body 9.9x3.9mm, Pitch 1.27mm, IPC High Density)
footprint LT-S-16_M (SOP, 16-Leads, Body 9.9x3.9mm, Pitch 1.27mm, IPC Low Density)
part A pins: 1 -IN R (in) "Inverting Input of R Channel Amplifier.", 2 +IN R (in) "Noninverting Input of R Channel Amplifier.", 15 OUT R (hiz) "R Channel Output.", 16 ~{EN} R (in) "R Channel Enable Pin. Logic low to enable."
part B pins: 4 -IN G (in) "Inverting Input of G Channel Amplifier.", 5 +IN G (in) "Noninverting Input of G Channel Amplifier.", 12 OUT G (hiz) "G Channel Output.", 13 ~{EN} G (in) "G Channel Enable Pin. Logic low to enable."
part C pins: 7 +IN B (in) "Noninverting Input of B Channel Amplifier.", 8 -IN B (in) "Inverting Input of B Channel Amplifier.", 9 ~{EN} B (in) "B Channel Enable Pin. Logic low to enable.", 10 OUT B (hiz) "B Channel Output."
part D pins: 3 GND (power) "Ground. Not connected internally.", 6 GND (power) "Ground. Not connected internally.", 11 V- (power) "Negative Supply Voltage, Usually -5V.", 14 V+ (power) "Positive Supply Voltage, Usually 5V."

## LT1399HVCS#TRPBF
designator U?
3 Channel, Operational Amplifier, 0.1 dB Gain Flatness to 150 MHz, 300 MHz Typical GBW, 800 V/us Typical SR, 3 to 15.5 V, 16-Pin SOIC (S-16), Commercial, Pb-Free, Reel; Linear Technology Part Number: LT1399HV; Manufacturer: Linear Technology; PartNumber: LT1399HVCS#TRPBF; Channels (#): 3; GBW (MHz) Typical: 300; Is (mA) Typical: 4.6; SR (V/us) Typical: 800; Vos (mV) Typical: 1.5; Vs Max (V): 15.5; DatasheetVersion: Rev. A; PackageVersion: Rev G; PackageReference: LT-S-16; PackageDescription: 16-Lead Plastic Small Outline, Body 9.9 x 3.9 mm, Pitch 1.27 mm; Supplier 1: Digi-Key; Supplier Part Number 1: LT1399HVCS#TRPBF-ND; Packing: Reel; RoHS: Pb-Free; Type: CFA; Vs Min (V): 3; Mounting Technology: Surface Mount; ComponentLink1Description: Manufacturer URL; ComponentLink1URL: http://www.linear.com/; ComponentLink2Description: Datasheet; ComponentLink2URL: http://cds.linear.com/docs/en/datasheet/13989fa.pdf; ComponentLink3Description: Package Specification; ComponentLink3URL: http://cds.linear.com/docs/en/packaging/S16%2005-08-1610%20Rev%20G.pdf
footprint LT-S-16_N (SOP, 16-Leads, Body 9.9x3.9mm, Pitch 1.27mm, IPC Medium Density)
footprint LT-S-16_L (SOP, 16-Leads, Body 9.9x3.9mm, Pitch 1.27mm, IPC High Density)
footprint LT-S-16_M (SOP, 16-Leads, Body 9.9x3.9mm, Pitch 1.27mm, IPC Low Density)
part A pins: 1 -IN R (in) "Inverting Input of R Channel Amplifier.", 2 +IN R (in) "Noninverting Input of R Channel Amplifier.", 15 OUT R (hiz) "R Channel Output.", 16 ~{EN} R (in) "R Channel Enable Pin. Logic low to enable."
part B pins: 4 -IN G (in) "Inverting Input of G Channel Amplifier.", 5 +IN G (in) "Noninverting Input of G Channel Amplifier.", 12 OUT G (hiz) "G Channel Output.", 13 ~{EN} G (in) "G Channel Enable Pin. Logic low to enable."
part C pins: 7 +IN B (in) "Noninverting Input of B Channel Amplifier.", 8 -IN B (in) "Inverting Input of B Channel Amplifier.", 9 ~{EN} B (in) "B Channel Enable Pin. Logic low to enable.", 10 OUT B (hiz) "B Channel Output."
part D pins: 3 GND (power) "Ground. Not connected internally.", 6 GND (power) "Ground. Not connected internally.", 11 V- (power) "Negative Supply Voltage, Usually -5V.", 14 V+ (power) "Positive Supply Voltage, Usually 5V."

## LT1399IGN
designator U?
3 Channel, Operational Amplifier, 0.1 dB Gain Flatness to 150 MHz, 300 MHz Typical GBW, 800 V/us Typical SR, 3 to 12.6 V, 16-Pin SOP (GN-16), Industrial; Linear Technology Part Number: LT1399; Manufacturer: Linear Technology; PartNumber: LT1399IGN; Channels (#): 3; GBW (MHz) Typical: 300; Is (mA) Typical: 4.6; SR (V/us) Typical: 800; Vos (mV) Typical: 1.5; Vs Max (V): 12.6; DatasheetVersion: Rev. A; PackageVersion: Rev B; PackageReference: LT-GN-16; PackageDescription: 16-Lead Plastic SSOP, Body 4.9 x 3.9 mm, Pitch 0.635 mm; Supplier 1: Digi-Key; Supplier Part Number 1: LT1399IGN-ND; Type: CFA; Vs Min (V): 3; Mounting Technology: Surface Mount; ComponentLink1Description: Manufacturer URL; ComponentLink1URL: http://www.linear.com/; ComponentLink2Description: Datasheet; ComponentLink2URL: http://cds.linear.com/docs/en/datasheet/13989fa.pdf; ComponentLink3Description: Package Specification; ComponentLink3URL: http://cds.linear.com/docs/en/packaging/05081641_B_GN16.pdf
footprint LT-GN-16_N (SOP, 16-Leads, Body 4.9x3.9mm, Pitch 0.635mm, IPC Medium Density)
footprint LT-GN-16_L (SOP, 16-Leads, Body 4.9x3.9mm, Pitch 0.635mm, IPC High Density)
footprint LT-GN-16_M (SOP, 16-Leads, Body 4.9x3.9mm, Pitch 0.635mm, IPC Low Density)
part A pins: 1 -IN R (in) "Inverting Input of R Channel Amplifier.", 2 +IN R (in) "Noninverting Input of R Channel Amplifier.", 15 OUT R (hiz) "R Channel Output.", 16 ~{EN} R (in) "R Channel Enable Pin. Logic low to enable."
part B pins: 4 -IN G (in) "Inverting Input of G Channel Amplifier.", 5 +IN G (in) "Noninverting Input of G Channel Amplifier.", 12 OUT G (hiz) "G Channel Output.", 13 ~{EN} G (in) "G Channel Enable Pin. Logic low to enable."
part C pins: 7 +IN B (in) "Noninverting Input of B Channel Amplifier.", 8 -IN B (in) "Inverting Input of B Channel Amplifier.", 9 ~{EN} B (in) "B Channel Enable Pin. Logic low to enable.", 10 OUT B (hiz) "B Channel Output."
part D pins: 3 GND (power) "Ground. Not connected internally.", 6 GND (power) "Ground. Not connected internally.", 11 V- (power) "Negative Supply Voltage, Usually -5V.", 14 V+ (power) "Positive Supply Voltage, Usually 5V."

## LT1399IGN#PBF
designator U?
3 Channel, Operational Amplifier, 0.1 dB Gain Flatness to 150 MHz, 300 MHz Typical GBW, 800 V/us Typical SR, 3 to 12.6 V, 16-Pin SOP (GN-16), Industrial, Pb-Free; Linear Technology Part Number: LT1399; Manufacturer: Linear Technology; PartNumber: LT1399IGN#PBF; Channels (#): 3; GBW (MHz) Typical: 300; Is (mA) Typical: 4.6; SR (V/us) Typical: 800; Vos (mV) Typical: 1.5; Vs Max (V): 12.6; DatasheetVersion: Rev. A; PackageVersion: Rev B; PackageReference: LT-GN-16; PackageDescription: 16-Lead Plastic SSOP, Body 4.9 x 3.9 mm, Pitch 0.635 mm; Supplier 1: Digi-Key; Supplier Part Number 1: LT1399IGN#PBF-ND; RoHS: Pb-Free; Type: CFA; Vs Min (V): 3; Mounting Technology: Surface Mount; ComponentLink1Description: Manufacturer URL; ComponentLink1URL: http://www.linear.com/; ComponentLink2Description: Datasheet; ComponentLink2URL: http://cds.linear.com/docs/en/datasheet/13989fa.pdf; ComponentLink3Description: Package Specification; ComponentLink3URL: http://cds.linear.com/docs/en/packaging/05081641_B_GN16.pdf
footprint LT-GN-16_N (SOP, 16-Leads, Body 4.9x3.9mm, Pitch 0.635mm, IPC Medium Density)
footprint LT-GN-16_L (SOP, 16-Leads, Body 4.9x3.9mm, Pitch 0.635mm, IPC High Density)
footprint LT-GN-16_M (SOP, 16-Leads, Body 4.9x3.9mm, Pitch 0.635mm, IPC Low Density)
part A pins: 1 -IN R (in) "Inverting Input of R Channel Amplifier.", 2 +IN R (in) "Noninverting Input of R Channel Amplifier.", 15 OUT R (hiz) "R Channel Output.", 16 ~{EN} R (in) "R Channel Enable Pin. Logic low to enable."
part B pins: 4 -IN G (in) "Inverting Input of G Channel Amplifier.", 5 +IN G (in) "Noninverting Input of G Channel Amplifier.", 12 OUT G (hiz) "G Channel Output.", 13 ~{EN} G (in) "G Channel Enable Pin. Logic low to enable."
part C pins: 7 +IN B (in) "Noninverting Input of B Channel Amplifier.", 8 -IN B (in) "Inverting Input of B Channel Amplifier.", 9 ~{EN} B (in) "B Channel Enable Pin. Logic low to enable.", 10 OUT B (hiz) "B Channel Output."
part D pins: 3 GND (power) "Ground. Not connected internally.", 6 GND (power) "Ground. Not connected internally.", 11 V- (power) "Negative Supply Voltage, Usually -5V.", 14 V+ (power) "Positive Supply Voltage, Usually 5V."

## LT1399IGN#TR
designator U?
3 Channel, Operational Amplifier, 0.1 dB Gain Flatness to 150 MHz, 300 MHz Typical GBW, 800 V/us Typical SR, 3 to 12.6 V, 16-Pin SOP (GN-16), Industrial, Reel; Linear Technology Part Number: LT1399; Manufacturer: Linear Technology; PartNumber: LT1399IGN#TR; Channels (#): 3; GBW (MHz) Typical: 300; Is (mA) Typical: 4.6; SR (V/us) Typical: 800; Vos (mV) Typical: 1.5; Vs Max (V): 12.6; DatasheetVersion: Rev. A; PackageVersion: Rev B; PackageReference: LT-GN-16; PackageDescription: 16-Lead Plastic SSOP, Body 4.9 x 3.9 mm, Pitch 0.635 mm; Supplier 1: Digi-Key; Supplier Part Number 1: LT1399IGNTR-ND; Packing: Reel; Type: CFA; Vs Min (V): 3; Mounting Technology: Surface Mount; ComponentLink1Description: Manufacturer URL; ComponentLink1URL: http://www.linear.com/; ComponentLink2Description: Datasheet; ComponentLink2URL: http://cds.linear.com/docs/en/datasheet/13989fa.pdf; ComponentLink3Description: Package Specification; ComponentLink3URL: http://cds.linear.com/docs/en/packaging/05081641_B_GN16.pdf
footprint LT-GN-16_N (SOP, 16-Leads, Body 4.9x3.9mm, Pitch 0.635mm, IPC Medium Density)
footprint LT-GN-16_L (SOP, 16-Leads, Body 4.9x3.9mm, Pitch 0.635mm, IPC High Density)
footprint LT-GN-16_M (SOP, 16-Leads, Body 4.9x3.9mm, Pitch 0.635mm, IPC Low Density)
part A pins: 1 -IN R (in) "Inverting Input of R Channel Amplifier.", 2 +IN R (in) "Noninverting Input of R Channel Amplifier.", 15 OUT R (hiz) "R Channel Output.", 16 ~{EN} R (in) "R Channel Enable Pin. Logic low to enable."
part B pins: 4 -IN G (in) "Inverting Input of G Channel Amplifier.", 5 +IN G (in) "Noninverting Input of G Channel Amplifier.", 12 OUT G (hiz) "G Channel Output.", 13 ~{EN} G (in) "G Channel Enable Pin. Logic low to enable."
part C pins: 7 +IN B (in) "Noninverting Input of B Channel Amplifier.", 8 -IN B (in) "Inverting Input of B Channel Amplifier.", 9 ~{EN} B (in) "B Channel Enable Pin. Logic low to enable.", 10 OUT B (hiz) "B Channel Output."
part D pins: 3 GND (power) "Ground. Not connected internally.", 6 GND (power) "Ground. Not connected internally.", 11 V- (power) "Negative Supply Voltage, Usually -5V.", 14 V+ (power) "Positive Supply Voltage, Usually 5V."